# Altium schematic symbol library SS34.Schlib: 1 symbol
Pins are listed as number, name and electrical type; pins without a type are passive.

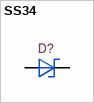
[diagram p0: symbol SS34]

## SS34
designator D?
40V 3A 550mV @ 3A SMA Schottky Barrier Diodes (SBD) RoHS; ComponentLink1Description: LCSC - SS34  C83961; ComponentLink1URL: https://lcsc.com/product-detail/Schottky-Barrier-Diodes-SBD_SS34_C83961.html/?href=jlc-SMT; LCSC Part #: C8678; JLCPCB Part Type: Basic
footprint SMA
pins: 1 A, 2 K